# EAGLE library part POLOLU_STEPPER (library mbed-microcontroller)
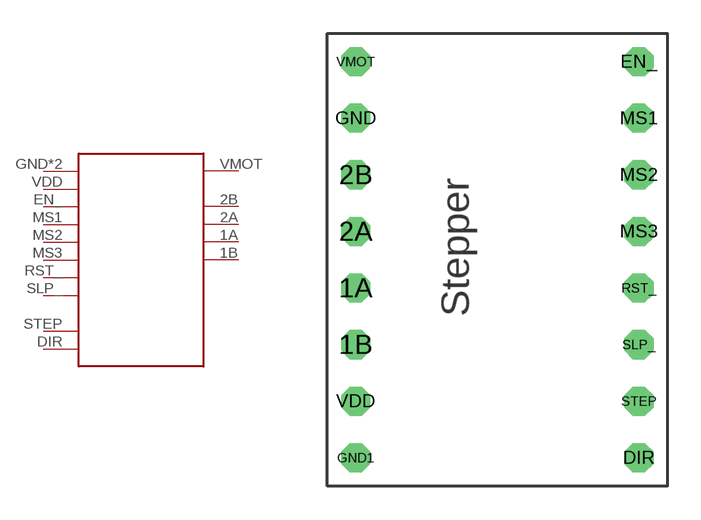
[diagram p19: symbol with the pads of POLOLU_STEPPER; footprint POLOLU_STEPPER]

Designator prefix -

## POLOLU_STEPPER  [POLOLU_STEPPER]
1A  1A
1B  1B
2A  2A
2B  2B
DIR  DIR
EN_  EN_
GND  GND
GND1  GND
MS1  MS1
MS2  MS2
MS3  MS3
RST_  RST_
SLP_  SLP_
STEP  STEP
VDD  VDD
VMOT  VMOT

## Footprint POLOLU_STEPPER (pad centres in mm)
drill 0.8 octagon: 1A -6.35,-1.27; 1B -6.35,-3.81; 2A -6.35,1.27; 2B -6.35,3.81; DIR 6.35,-8.89; EN_ 6.35,8.89; GND -6.35,6.35; GND1 -6.35,-8.89; MS1 6.35,6.35; MS2 6.35,3.81; MS3 6.35,1.27; RST_ 6.35,-1.27; SLP_ 6.35,-3.81; STEP 6.35,-6.35; VDD -6.35,-6.35; VMOT -6.35,8.89